# Altium schematic symbol library RJ45-8p8c.SchLib: 1 symbol
Pins are listed as number, name and electrical type; pins without a type are passive.

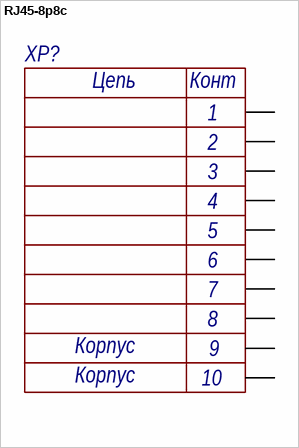
[diagram p0: symbol RJ45-8p8c]

## RJ45-8p8c
designator XP?
pins: 1, 2, 3, 4, 5, 6, 7, 8, MH1, MH2
text: Цепь; Конт; Корпус; 9; 10